# Altium footprint library 晶振封装库.PcbLib: 82 footprints (part 2 of 6)
Each footprint in its own frame and in the unit in brackets; x right, y up, seen from the top. Pads: shape width x height; smd on the part's side, far side on the other; paste and mask are expansions set on the pad; w line width, h text height; cw(c..) or ccw(c..) is an arc to the next point about the centre after c.
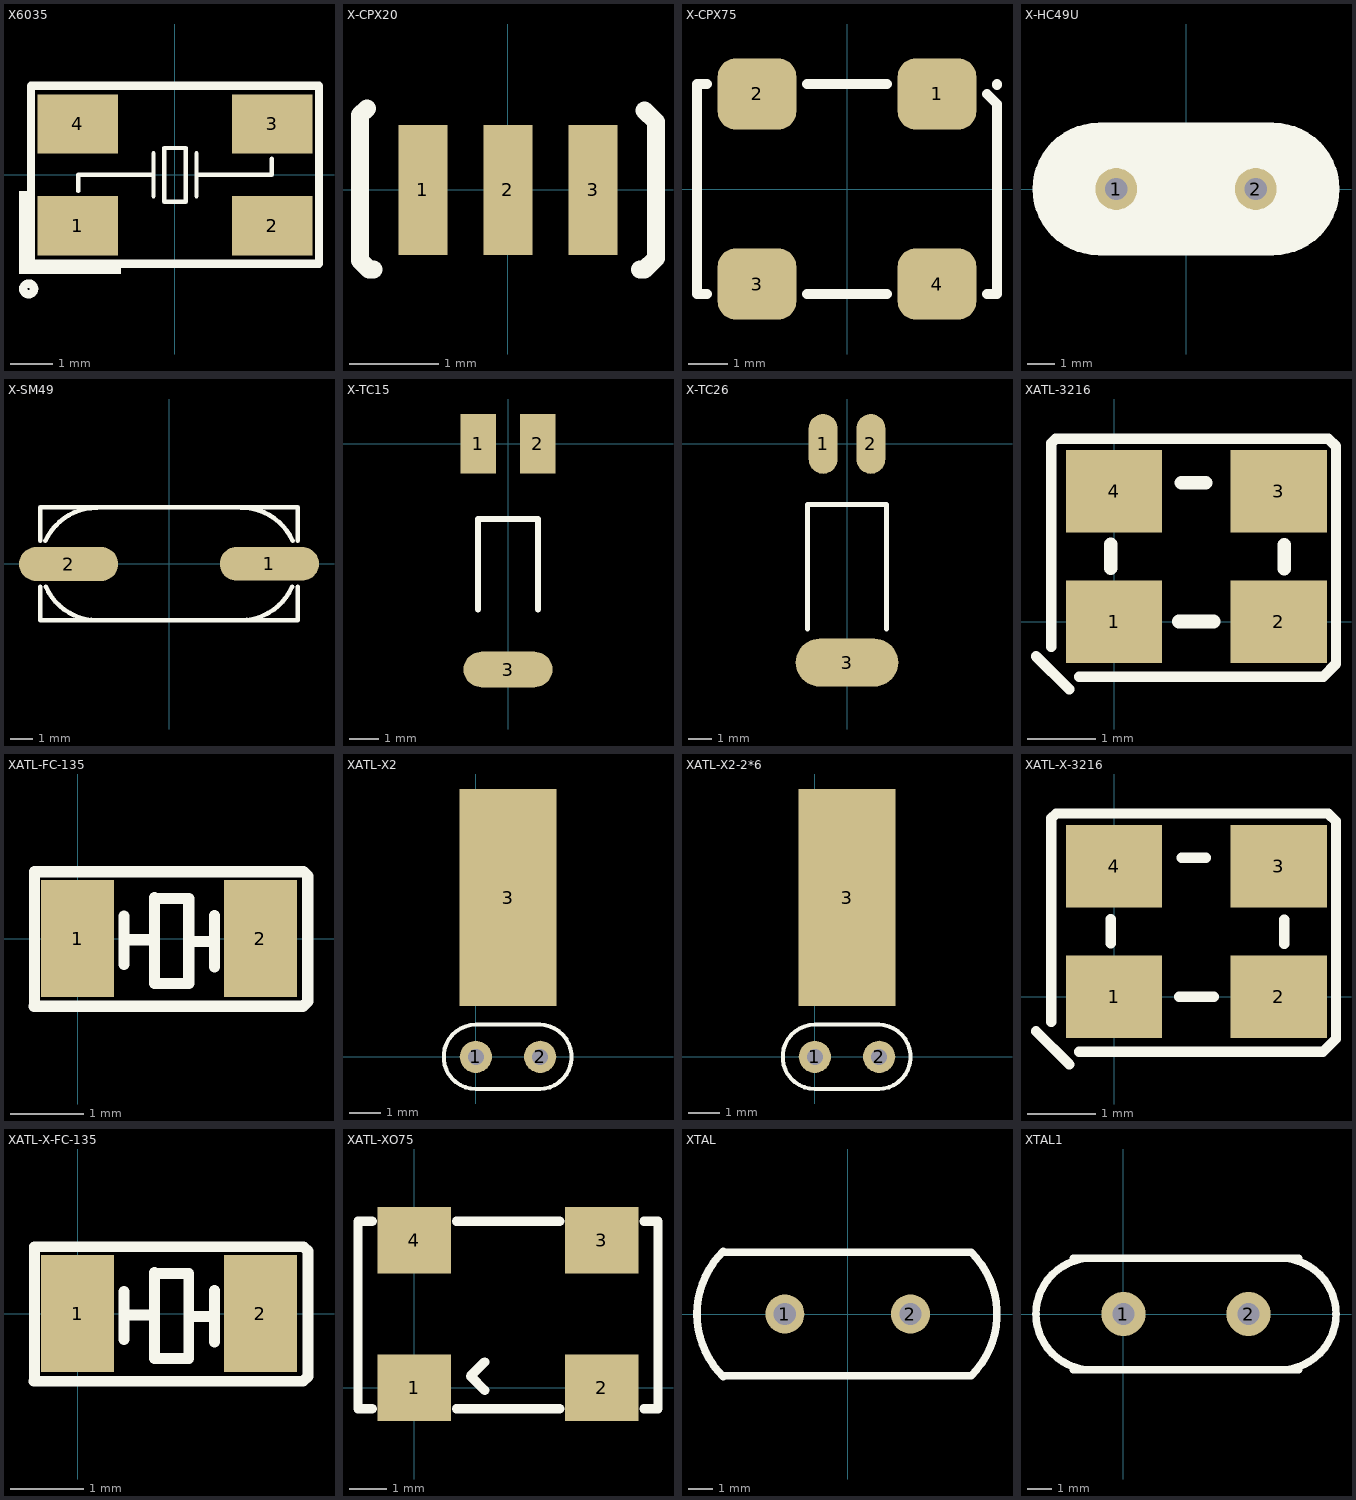
[diagram p1: the footprints below, top view; thin cyan lines are the x and y axes]

## X6035 [mm]
pads (4):
  rect 1.9x1.4 smd: 1(-2.3,-1.2) 2(2.3,-1.2) 3(2.3,1.2) 4(-2.3,1.2)
Top Overlay:
  circle w0.2: c-3.454,-2.692 r0.127
  rectangle: -3.683,-2.337 -3.48,-0.381
  rectangle: -3.658,-2.337 -1.27,-2.108
  lines w0.1: -2.286,-0.381 -2.286,0 -2.032,0 -0.508,0 ; -0.508,-0.508 -0.508,0.508 ; 0.508,-0.508 0.508,0.508 ; 0.508,0 2.286,0 2.286,0.381 ; -0.254,-0.635 0.254,-0.635 0.254,0.635 -0.254,0.635 -0.254,-0.635
  lines w0.2: -3.4,-2.1 -3.4,2.1 3.4,2.1 3.4,-2.1 -3.4,-2.1
3D body "User Library-CRYSTALSMD5X32.STEP": height 1, standoff 0, extent -2.5,-1.6 2.5,1.6

## X-CPX20 [mm] "贴片晶振"
pads (3):
  rect 0.55x1.45 smd: 1(-0.95,0) 2(0,0) 3(0.95,0)
Top Overlay:
  lines w0.2: -1.576,0.911 -1.651,0.836 -1.651,-0.789 -1.551,-0.889 -1.501,-0.889 ; 1.474,-0.889 1.524,-0.889 1.651,-0.762 1.651,0.762 1.524,0.889

## X-CPX75 [mm]
height 14.8
pads (4):
  rrect50% 2x1.8 smd: 1(2.281,2.415) 2(-2.291,2.415) 3(-2.291,-2.411) 4(2.281,-2.411)
Top Overlay:
  lines w0.254: -3.561,-2.665 -3.815,-2.665 -3.815,2.669 -3.561,2.669 ; -1.021,-2.665 1.011,-2.665 ; -1.021,2.669 1.011,2.669 ; 3.551,-2.665 3.805,-2.665 3.805,2.161 3.551,2.415 ; 3.805,2.644 3.805,2.669

## X-HC49U [mil] "插件晶振"
height 157.48
pads (2):
  round 60 hole 32: 1(-100,0) 2(100,0)
Top Overlay:
  lines w10: -125,-90 cw(c-125,0) -125,90 125,90 cw(c125,0) 125,-90 -125,-90
  lines w177.17: -125,0 125,0

## X-SM49 [mm]
height 14.8
pads (2):
  oval 4.4x1.5 smd: 1(4.45,0.004) 2(-4.45,-0.004)
Top Overlay:
  lines w0.2: -5.7,-2.499 5.718,-2.499 ; -5.7,-2.496 -5.7,-1.016 ; -5.7,1.016 -5.7,2.504 5.718,2.504 5.718,1.016 ; -5.477,1.023 cw(c-3.202,-0.013) -3.175,2.487 ; -5.461,-1.016 ccw(c-3.176,-0.001) -3.176,-2.501 ; 3.175,-2.5 ccw(c3.175,0) 5.46,-1.015 ; 3.175,2.496 cw(c3.202,-0.004) 5.48,1.025 ; 5.718,-2.496 5.718,-1.016

## X-TC15 [mm] "圆柱晶振1"
pads (3):
  rect 1.2x2 smd: 1(-1,0) 2(1,0)
  oval 3x1.2 smd: 3(0,-7.62)
Top Overlay:
  lines w0.2: -1.016,-5.588 -1.016,-2.54 1.016,-2.54 1.016,-5.588
3D body: height 1.1, standoff 0.9, extent 0.535,-3 0.735,0
3D body: height 1.1, standoff 0.9, extent -0.735,-3 -0.535,0
3D body: height 1.99, standoff 0, extent -0.998,-8.286 0.998,-2.286

## X-TC26 [mm] "圆柱晶振2"
pads (3):
  oval 1.2x2.5 smd: 1(-1,0) 2(1,0)
  oval 4.3x2 smd: 3(0,-9.144)
Top Overlay:
  lines w0.2: -1.651,-7.747 -1.651,-2.54 1.651,-2.54 1.651,-7.747

## XATL-3216 [mm]
pads (4):
  rect 1.4x1.2 smd: 1(0,0) 2(2.4,0) 3(2.4,1.9) 4(0,1.9)
Top Overlay:
  lines w0.152: -1.138,-0.503 -0.653,-0.988 ; -0.915,-0.365 -0.915,2.599 -0.847,2.667 3.123,2.667 3.234,2.556 3.234,-0.614 3.045,-0.803 -0.511,-0.803
  lines w0.2: -0.047,0.777 -0.047,1.127 ; 0.945,0 1.453,0 ; 0.984,2.023 1.334,2.023 ; 2.478,0.771 2.478,1.121

## XATL-FC-135 [mm]
pads (2):
  rect 1x1.6 smd: 1(0,0) 2(2.5,0)
Top Overlay:
  lines w0.152: 0.634,-0.351 0.634,0.305 ; 0.634,-0.016 1.041,-0.016 ; 1.541,-0.037 1.874,-0.037 ; 1.874,-0.388 1.874,0.316 ; -0.596,-0.924 -0.588,-0.916 -0.588,0.914 3.089,0.914 3.147,0.856 3.147,-0.859 3.082,-0.924 -0.596,-0.924 ; 1.052,-0.611 1.52,-0.611 1.52,0.548 1.065,0.548 1.052,0.561 1.052,-0.611

## XATL-X2 [mil]
pads (3):
  round 40 hole 20: 1(0,0) 2(80,0)
  rect 120x270 smd: 3(40,198)
Top Overlay:
  lines w5: 79,-40 ccw(c79,0) 79,40 ; 80,-40 0,-40 cw(c0,0) 0,40 80,40

## XATL-X2-2*6 [mil]
pads (3):
  round 40 hole 20: 1(0,0) 2(80,0)
  rect 120x270 smd: 3(40,198)
Top Overlay:
  lines w5: 79,-40 ccw(c79,0) 79,40 ; 80,-40 0,-40 cw(c0,0) 0,40 80,40

## XATL-X-3216 [mm]
pads (4):
  rect 1.4x1.2 smd: 1(0,0) 2(2.4,0) 3(2.4,1.9) 4(0,1.9)
Top Overlay:
  lines w0.15: -1.138,-0.503 -0.653,-0.988 ; -0.915,-0.365 -0.915,2.599 -0.847,2.667 3.123,2.667 3.234,2.556 3.234,-0.614 3.045,-0.803 -0.511,-0.803 ; -0.047,0.777 -0.047,1.127 ; 0.945,0 1.453,0 ; 0.984,2.023 1.334,2.023 ; 2.478,0.771 2.478,1.121

## XATL-X-FC-135 [mm]
pads (2):
  rect 1x1.6 smd: 1(0,0) 2(2.5,0)
Top Overlay:
  lines w0.15: 0.634,-0.351 0.634,0.305 ; 0.634,-0.016 1.041,-0.016 ; 1.541,-0.037 1.874,-0.037 ; 1.874,-0.388 1.874,0.316 ; -0.596,-0.924 -0.588,-0.916 -0.588,0.914 3.089,0.914 3.147,0.856 3.147,-0.859 3.082,-0.924 -0.596,-0.924 ; 1.052,-0.611 1.52,-0.611 1.52,0.548 1.065,0.548 1.052,0.561 1.052,-0.611

## XATL-XO75 [mm]
pads (4):
  rect 2x1.8 smd: 1(0,0) 2(5.08,0) 3(5.08,4) 4(0,4)
Top Overlay:
  lines w0.254: -1.143,-0.572 -1.524,-0.572 -1.524,4.508 -1.143,4.508 ; 1.143,-0.572 3.937,-0.572 ; 1.143,4.508 3.937,4.508 ; 1.905,-0.064 1.524,0.317 1.905,0.698 ; 6.223,-0.572 6.604,-0.572 6.604,4.508 6.223,4.508

## XTAL [mil]
pads (2):
  round 62 hole 35.43: 1(-100,0) 2(100,0)
Top Overlay:
  lines w12: -198.1,-99.7 cw(c-100,0) -198.1,99.7 ; -196.85,-98.42 196.85,-98.42 ; -196.85,98.42 196.85,98.42 ; 196.59,-98.16 ccw(c100,0) 196.59,98.16

## XTAL1 [mm]
pads (2):
  round 1.8 hole 0.9: 1(0,0) 2(5.08,0)
Top Overlay:
  lines w0.305: -2.033,-2.259 7.113,-2.259 ; -2.033,2.259 7.113,2.259 ; -1.524,-2.259 cw(c-1.283,0) -1.524,2.259 ; 6.604,-2.259 ccw(c6.363,0) 6.604,2.259